# Altium footprint library PIC18F4520-E&slash_P.PcbLib: 1 footprints
Each footprint in its own frame and in the unit in brackets; x right, y up, seen from the top. Pads: shape width x height; smd on the part's side, far side on the other; paste and mask are expansions set on the pad; w line width, h text height; cw(c..) or ccw(c..) is an arc to the next point about the centre after c.
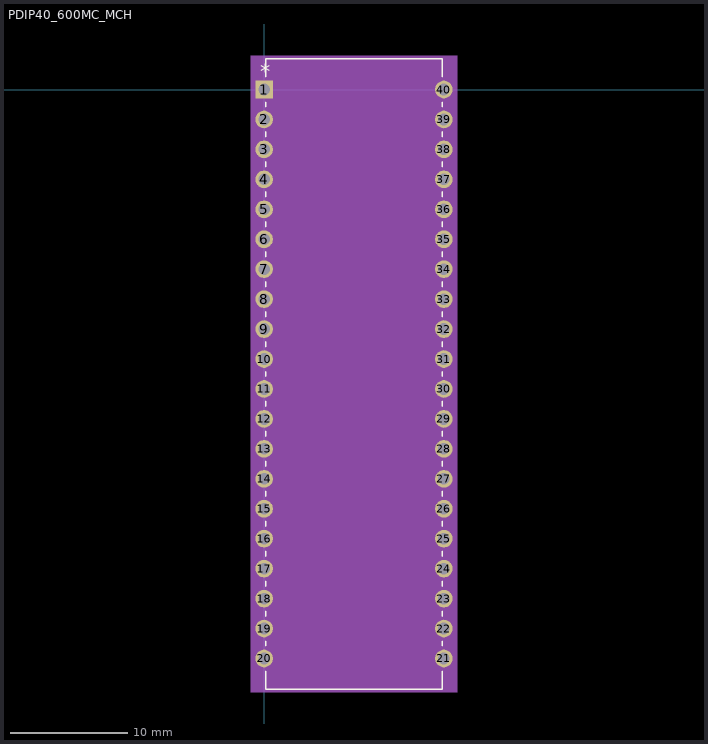
[diagram p0: the footprint, top view; thin cyan lines are the x and y axes]

## PDIP40_600MC_MCH [mil]
pads (40):
  rect 59x59 hole 39 mask+0: 1(0,0)
  round 59 hole 39 mask+0: 2(0,-100) 3(0,-200) 4(0,-300) 5(0,-400) 6(0,-500) 7(0,-600) 8(0,-700) 9(0,-800) 10(0,-900) 11(0,-1000) 12(0,-1100) 13(0,-1200) 14(0,-1300) 15(0,-1400) 16(0,-1500) 17(0,-1600) 18(0,-1700) 19(0,-1800) 20(0,-1900) 21(600,-1900) 22(600,-1800) 23(600,-1700) 24(600,-1600) 25(600,-1500) 26(600,-1400) 27(600,-1300) 28(600,-1200) 29(600,-1100) 30(600,-1000) 31(600,-900) 32(600,-800) 33(600,-700) 34(600,-600) 35(600,-500) 36(600,-400) 37(600,-300) 38(600,-200) 39(600,-100) 40(600,0)
Top Overlay:
  lines w6: 5,-1942.31 5,-2002.5 595,-2002.5 595,-1942.31 ; 5,-1857.69 5,-1842.31 ; 5,-1757.69 5,-1742.31 ; 5,-1657.69 5,-1642.31 ; 5,-1557.69 5,-1542.31 ; 5,-1457.69 5,-1442.31 ; 5,-1357.69 5,-1342.31 ; 5,-1257.69 5,-1242.31 ; 5,-1157.69 5,-1142.31 ; 5,-1057.69 5,-1042.31 ; 5,-957.69 5,-942.31 ; 5,-857.69 5,-842.31 ; 5,-757.69 5,-742.31 ; 5,-657.69 5,-642.31 ; 5,-557.69 5,-542.31 ; 5,-457.69 5,-442.31 ; 5,-357.69 5,-342.31 ; 5,-257.69 5,-242.31 ; 5,-157.69 5,-142.31 ; 5,-57.69 5,-42.6 ; 5,42.6 5,102.5 595,102.5 595,42.31 ; 595,-1857.69 595,-1842.31 ; 595,-1757.69 595,-1742.31 ; 595,-1657.69 595,-1642.31 ; 595,-1557.69 595,-1542.31 ; 595,-1457.69 595,-1442.31 ; 595,-1357.69 595,-1342.31 ; 595,-1257.69 595,-1242.31 ; 595,-1157.69 595,-1142.31 ; 595,-1057.69 595,-1042.31 ; 595,-957.69 595,-942.31 ; 595,-857.69 595,-842.31 ; 595,-757.69 595,-742.31 ; 595,-657.69 595,-642.31 ; 595,-557.69 595,-542.31 ; 595,-457.69 595,-442.31 ; 595,-357.69 595,-342.31 ; 595,-257.69 595,-242.31 ; 595,-157.69 595,-142.31 ; 595,-57.69 595,-42.31
  text "*" at -12.5,34.5 h50
Mechanical 5:
  region: 644.5,-2012.5 -44.5,-2012.5 -44.5,112.5 644.5,112.5
Mechanical 13:
  drawing of 165 lines, arcs and shapes, not listed
  text "*" at 7.5,-25 h50
Mechanical 15:
  region: 600,-1940 639.5,-1940 639.5,40 600,40 600,107.5 0,107.5 0,40 -39.5,40 -39.5,-1940 0,-1940 0,-2007.5 600,-2007.5
  lines w6: -39.5,-1940 0,-1940 0,-2007.5 600,-2007.5 600,-1940 639.5,-1940 639.5,40 600,40 600,107.5 0,107.5 0,40 -39.5,40 -39.5,-1940
3D body "PDIP40_600MC_MCH.step": height 255.12, standoff -100, extent -5,-1997.48 615,97.48